# Altium schematic symbol library mcu_lib.SchLib: 4 symbols
Pins are listed as number, name and electrical type; pins without a type are passive.

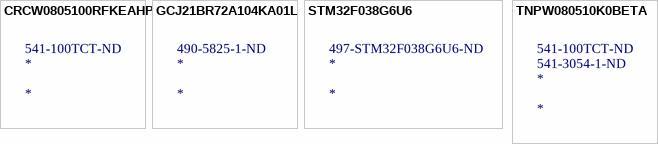
[diagram p0: symbols CRCW0805100RFKEAHP to TNPW080510K0BETA]

## CRCW0805100RFKEAHP
designator *  Supplier Part Number 1: 541-100TCT-ND
Res Thick Film 0805 100 Ohm 1% 0.5W ±100ppm/°C Molded SMD SMD Paper T/R; Manufacturer: Vishay Dale; Manufacturer Part Number: CRCW0805100RFKEAHP; Resistance: 100R; Max Power Dissipation: 500mW; Power Rating: 330mW; Voltage Rating: 150V; Supplier 1: Digi-Key; RoHS: Yes; Category: Chip SMD Resistors; Mount: Surface Mount; Case/Package: 0805; Case Code (Imperial): 0805; Case Code (Metric): 2012; Contact Plating: Tin; Weight: 0.000194oz; Min Operating Temperature: -55°C; Max Operating Temperature: 155°C; Tolerance: 1%; Packaging: Tape and Reel; Resistor Type: Thick Film; Temperature Coefficient: 100ppm/°C; Features: Automotive AEC-Q200; Series: CRCW-HP; Number of Terminations: 2; Package Quantity: 5000; Termination: SMD/SMT; Construction: Rectangular; Voltage Rating (DC): 150V; Resistance Tolerance: 1%; Technology: THICK FILM; Length: 2mm; Width: 1.2mm; Height: 0.5mm; Depth: 1.25mm; Radiation Hardening: No; Lead Free: Lead Free; RoHS Compliant: Yes; Military Standard: Not; REACH SVHC: Unknown; ComponentLink1URL: https://datasheet.ciiva.com/5544/crcwhpe3-46056-5544902.pdf?src-supplier=Mouser; ComponentLink1Description: https://datasheet.ciiva.com/5544/crcwhpe3-46056-5544902.pdf?src-supplier=Mouser; ComponentLink2URL: https://datasheet.ciiva.com/3258/crcwhpe3-3258012.pdf?src-supplier=Avnet; ComponentLink2Description: https://datasheet.ciiva.com/3258/crcwhpe3-3258012.pdf?src-supplier=Avnet; ComponentLink3URL: https://datasheet.ciiva.com/22673/1885357-22673077.pdf?src-supplier=Element14; ComponentLink3Description: https://datasheet.ciiva.com/22673/1885357-22673077.pdf?src-supplier=Element14; ComponentLink4URL: https://datasheet.ciiva.com/22673/1885357-22673078.pdf?src-supplier=Element14; ComponentLink4Description: https://datasheet.ciiva.com/22673/1885357-22673078.pdf?src-supplier=Element14

## GCJ21BR72A104KA01L
designator *  Supplier Part Number 1: 490-5825-1-ND
贴片电容（MLCC） 100000pF ±10% DC100V X7R 0805; Manufacturer: Murata; Manufacturer Part Number: GCJ21BR72A104KA01L; Capacitance: 100nF; Voltage Rating: 100V; Supplier 1: Digi-Key; RoHS: Yes; Category: Ceramic Capacitors; Stock 1: 2284076; Mount: Surface Mount; Case/Package: 0805; Case Code (Metric): 2012; Case Code (Imperial): 0805; Min Operating Temperature: -55°C; Max Operating Temperature: 125°C; Tolerance: 10%; Packaging: Tape and Reel; Package Quantity: 3000; Termination: SMD/SMT; Voltage Rating (DC): 100V; Dielectric: X7R; Series: GCJ; Features: Soft Termination; Length: 0.079inch; Width: 0.049inch; Depth: 1.25mm; Thickness: 0.049inch; Ratings: AEC-Q200; RoHS Compliant: Yes; Lead Free: Lead Free; ComponentLink1URL: https://datasheet.ciiva.com/137/product-137740.pdf?src-supplier=Digi-Key; ComponentLink1Description: https://datasheet.ciiva.com/137/product-137740.pdf?src-supplier=Digi-Key; ComponentLink2URL: https://datasheet.ciiva.com/137/s0717e-137741.pdf?src-supplier=Digi-Key; ComponentLink2Description: https://datasheet.ciiva.com/137/s0717e-137741.pdf?src-supplier=Digi-Key; ComponentLink3URL: https://datasheet.ciiva.com/137/s0717e-137742.pdf?src-supplier=Digi-Key; ComponentLink3Description: https://datasheet.ciiva.com/137/s0717e-137742.pdf?src-supplier=Digi-Key

## STM32F038G6U6
designator *  Supplier Part Number 1: 497-STM32F038G6U6-ND
MCU 32-bit ARM Cortex M0 RISC 32KB Flash 2.5V/3.3V 28-Pin UFQFPN Tray; Manufacturer: STMicroelectronics; Manufacturer Part Number: STM32F038G6U6; Frequency: 48MHz; Interface: I2C,SPI,IrDA,UART,USART,LIN; Number of I/Os: 22; Oscillator Type: Internal; Peripherals: POR,PWM,WDT,DMA; Supplier 1: Digi-Key; RoHS: Yes; Category: Microcontrollers; Stock 1: 2791; Case/Package: UFQFPN; Number of Pins: 28; Min Operating Temperature: -40°C; Max Operating Temperature: 85°C; Packaging: Tray; Memory Type: FLASH; Package Quantity: 2940; Memory Size: 32KB; Core Architecture: ARM; RoHS Compliant: Yes; ComponentLink1URL: http://www.mouser.com/ds/2/389/stm32f038c6-956224.pdf?src-supplier=Mouser; ComponentLink1Description: http://www.mouser.com/ds/2/389/stm32f038c6-956224.pdf?src-supplier=Mouser; ComponentLink2URL: http://www.st.com/content/ccc/resource/technical/document/datasheet/5f/5d/72/7b/c3/2d/46/54/DM00110868.pdf/files/DM00110868.pdf/jcr:content/translations/en.DM00110868.pdf?src-supplier=Digi-Key; ComponentLink2Description: http://www.st.com/content/ccc/resource/technical/document/datasheet/5f/5d/72/7b/c3/2d/46/54/DM00110868.pdf/files/DM00110868.pdf/jcr:content/translations/en.DM00110868.pdf?src-supplier=Digi-Key

## TNPW080510K0BETA
designator *  Supplier Part Number 1: 541-3054-1-ND  Supplier Part Number 2: 541-100TCT-ND
Res Thick Film 0805 100 Ohm 1% 0.5W ±100ppm/°C Molded SMD SMD Paper T/R; Manufacturer: Vishay Dale; Manufacturer Part Number: TNPW080510K0BETA; Resistance: 10kR; Power Rating: 125mW; Tolerance: 0.1%; Temperature Coefficient: 25ppm/°C; Voltage Rating: 150V; Voltage Rating (DC): 100V; Supplier 1: Digi-Key; RoHS: No; Category: Chip SMD Resistors; Stock 1: 867; Case/Package: 0805; Case Code (Imperial): 0805; Case Code (Metric): 2012; Contact Plating: Tin,Lead; Size Code: 0805; Weight: 0.000194oz; Min Operating Temperature: -55°C; Max Operating Temperature: 125°C; Packaging: Tape and Reel; Series: TNPW; Resistor Type: Thin Film; Package Quantity: 5000; Number of Terminations: 2; Termination: SMD/SMT; Max Power Dissipation: 125mW; Features: Moisture Resistant,Automotive AEC-Q200,Anti-Sulfur; Construction: Rectangular; Length: 2mm; Width: 0.049inch; Height: 0.022inch; Depth: 1.25mm; Radiation Hardening: No; RoHS Compliant: No; Lead Free: Contains Lead; Military Standard: Not; ComponentLink1URL: https://datasheet.ciiva.com/9052/tnpw-9052510.pdf?src-supplier=Avnet; ComponentLink1Description: https://datasheet.ciiva.com/9052/tnpw-9052510.pdf?src-supplier=Avnet; ComponentLink2URL: https://datasheet.ciiva.com/9052/tnpw-9052517.pdf?src-supplier=Avnet; ComponentLink2Description: https://datasheet.ciiva.com/9052/tnpw-9052517.pdf?src-supplier=Avnet; ComponentLink3URL: https://datasheet.ciiva.com/2609/tnpw-2609608.pdf?src-supplier=Digi-Key; ComponentLink3Description: https://datasheet.ciiva.com/2609/tnpw-2609608.pdf?src-supplier=Digi-Key; ComponentLink4URL: https://datasheet.ciiva.com/17190/tnpw-17190934.pdf?src-supplier=Avnet+Europe; ComponentLink4Description: https://datasheet.ciiva.com/17190/tnpw-17190934.pdf?src-supplier=Avnet+Europe; Supplier 2: Digi-Key; Mount: Surface Mount; Resistance Tolerance: 1%; Technology: THICK FILM; REACH SVHC: Unknown; ComponentLink5URL: https://datasheet.ciiva.com/5544/crcwhpe3-46056-5544902.pdf?src-supplier=Mouser; ComponentLink5Description: https://datasheet.ciiva.com/5544/crcwhpe3-46056-5544902.pdf?src-supplier=Mouser; ComponentLink6URL: https://datasheet.ciiva.com/3258/crcwhpe3-3258012.pdf?src-supplier=Avnet; ComponentLink6Description: https://datasheet.ciiva.com/3258/crcwhpe3-3258012.pdf?src-supplier=Avnet; ComponentLink7URL: https://datasheet.ciiva.com/22673/1885357-22673077.pdf?src-supplier=Element14; ComponentLink7Description: https://datasheet.ciiva.com/22673/1885357-22673077.pdf?src-supplier=Element14; ComponentLink8URL: https://datasheet.ciiva.com/22673/1885357-22673078.pdf?src-supplier=Element14; ComponentLink8Description: https://datasheet.ciiva.com/22673/1885357-22673078.pdf?src-supplier=Element14